# Altium footprint library LPEDT_project_library.PcbLib: 22 footprints (part 1 of 2)
Each footprint in its own frame and in the unit in brackets; x right, y up, seen from the top. Pads: shape width x height; smd on the part's side, far side on the other; paste and mask are expansions set on the pad; w line width, h text height; cw(c..) or ccw(c..) is an arc to the next point about the centre after c.
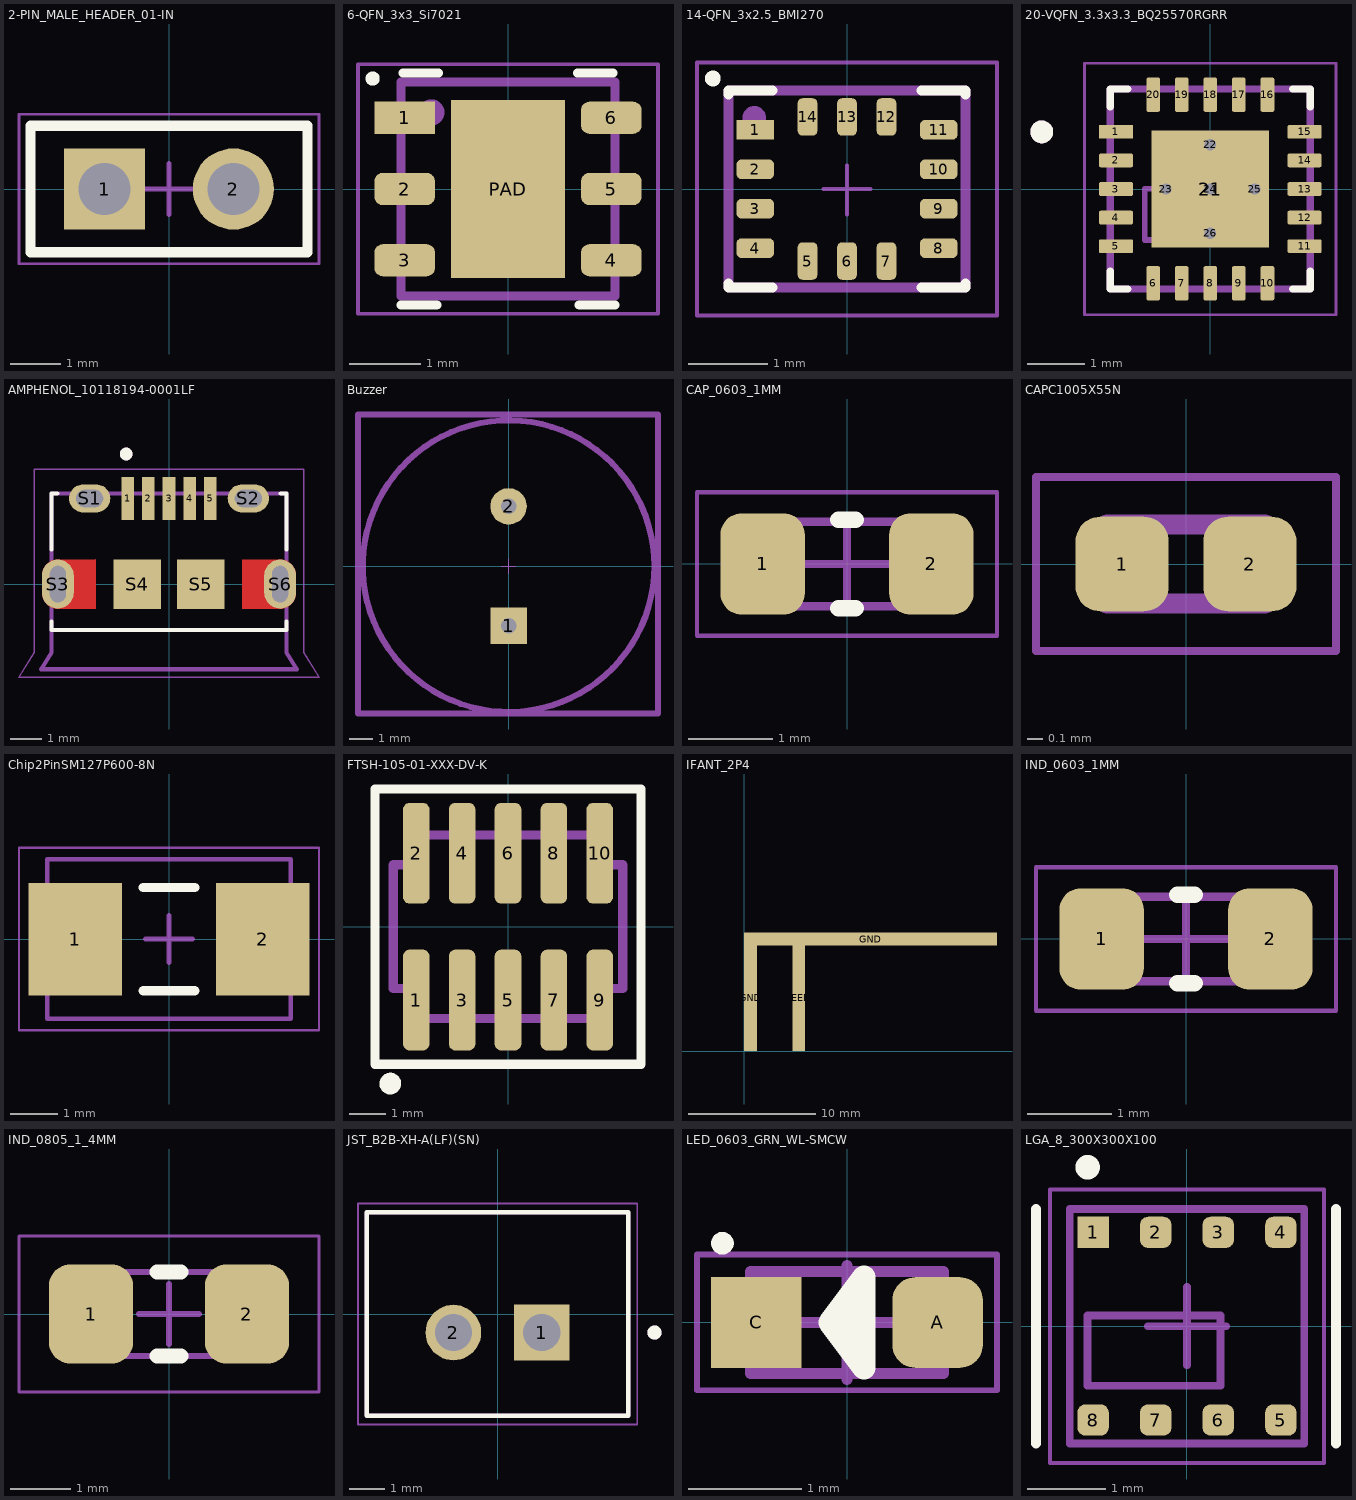
[diagram p0: the footprints below, top view; thin cyan lines are the x and y axes]

## 2-PIN_MALE_HEADER_01-IN [mm] "Terminal Assembly, 1x2 Pins, Vertical, 2.54mm Pitch, Male"
height 6.02
pads (2):
  rect 1.6x1.6 hole 1.02: 1(-1.27,0)
  round 1.6 hole 1.02: 2(1.27,0)
Top Overlay:
  lines w0.2: -2.73,-1.245 2.73,-1.245 2.73,1.245 -2.73,1.245 -2.73,-1.245
Mechanical 13:
  lines w0.1: -2.73,1.245 2.73,1.245 2.73,-1.245 -2.73,-1.245 -2.73,1.245
  text ".Designator" at -1.524,-0.635 h1.3
Mechanical 15:
  lines w0.05: -2.955,-1.47 2.955,-1.47 2.955,1.47 -2.955,1.47 -2.955,-1.47
  lines w0.1: -0.5,0 0.5,0 ; 0,-0.5 0,0.5
3D body "User Library-Header_Male_2Pin.STEP": height 8.54, standoff -3, extent -2.54,-1.22 2.54,1.27

## 6-QFN_3x3_Si7021 [mm] "QFN, 6-Leads, Body 3.00mmx2.50mm, Pitch 0.02, IPC Medium Density"
pads (7):
  rect 0.85x0.45 smd mask+0.06: 1(-1.45,1)
  rrect50% 0.85x0.45 smd mask+0.06: 2(-1.45,0) 3(-1.45,-1) 4(1.45,-1) 5(1.45,0) 6(1.45,1)
  rect 1.6x2.5 smd paste-2 mask+0.06: PAD(0,0)
Top Overlay:
  circle w0.1: c-1.9,1.55 r0.05
  lines w0.127: -1.5,-1.625 -1,-1.625 ; -1.475,1.625 -0.975,1.625 ; 0.975,1.625 1.475,1.625 ; 1,-1.625 1.5,-1.625
Top Paste:
  region: 0.8,0.127 -0.802,0.127 -0.802,1.249 0.8,1.249
  region: 0.801,-1.245 -0.801,-1.245 -0.801,-0.097 0.801,-0.097
Mechanical 13:
  circle w0.254: c-1.075,1.075 r0.056
  lines w0.127: -1.5,-1.5 1.5,-1.5 1.5,1.5 -1.5,1.5 -1.5,-1.5
  text ".Designator" at -1.13,-0.913 h0.65
Mechanical 15:
  lines w0.05: -0.325,0 0,0 ; 0,-0.3 0,0 ; 0,0.3 0,0 ; 0.3,0 0,0 ; -2.105,-1.75 2.105,-1.75 2.105,1.75 -2.105,1.75 -2.105,-1.75
3D body "SI7021-A20-IM.STEP": height 1.21, standoff 0, extent -1.5,-1.5 1.5,1.5

## 14-QFN_3x2.5_BMI270 [mm] "QFN, 14-Leads, Body 3.00mmx2.50mm, Pitch 0.13, IPC Medium Density"
height 0.87
pads (14):
  rect 0.475x0.25 smd mask+0.09: 1(-1.162,0.75)
  rrect50% 0.475x0.25 smd mask+0.09: 2(-1.162,0.25) 3(-1.162,-0.25) 4(-1.162,-0.75) 8(1.162,-0.75) 9(1.162,-0.25) 10(1.162,0.25) 11(1.162,0.75)
  rrect50% 0.25x0.475 smd mask+0.09: 5(-0.5,-0.913) 6(0,-0.913) 7(0.5,-0.913) 12(0.5,0.913) 13(0,0.913) 14(-0.5,0.913)
Top Overlay:
  circle w0.1: c-1.7,1.4 r0.05
  lines w0.127: -1.5,-1.195 -1.5,-1.25 -0.945,-1.25 ; -1.5,1.195 -1.5,1.25 -0.945,1.25 ; 0.945,-1.25 1.5,-1.25 1.5,-1.195 ; 0.945,1.25 1.5,1.25 1.5,1.195
Mechanical 13:
  circle w0.15: c-1.175,0.9 r0.075
  lines w0.127: -1.5,-1.25 -1.5,1.25 1.5,1.25 1.5,-1.25 -1.5,-1.25
  text ".Designator" at -0.88,-0.363 h0.65
Mechanical 15:
  lines w0.05: -0.3,0 0,0 ; 0,-0.325 0,0 ; 0,0.3 0,0 ; 0.3,0 0,0 ; -1.9,-1.6 1.9,-1.6 1.9,1.6 -1.9,1.6 -1.9,-1.6
3D body "step_temp.STEP": height 0.87, standoff 0, extent -1.5,-1.25 1.5,1.25

## 20-VQFN_3.3x3.3_BQ25570RGRR [mm] "VQFN, 20-Leads, Body 3.30mmx3.30mm, IPC Medium Density"
height 1
pads (26):
  rect 0.6x0.24 smd mask+0: 1(-1.65,1)
  rrect27% 0.6x0.24 smd mask+0: 2(-1.65,0.5) 3(-1.65,0) 4(-1.65,-0.5) 5(-1.65,-1) 11(1.65,-1) 12(1.65,-0.5) 13(1.65,0) 14(1.65,0.5) 15(1.65,1)
  rrect27% 0.24x0.6 smd mask+0: 6(-1,-1.65) 7(-0.5,-1.65) 8(0,-1.65) 9(0.5,-1.65) 10(1,-1.65) 16(1,1.65) 17(0.5,1.65) 18(0,1.65) 19(-0.5,1.65) 20(-1,1.65)
  rect 2.05x2.05 smd paste-2 mask+0.07: 21(0,0)
  round 0.3 hole 0.2 mask+0: 22(0,0.775) 23(-0.775,0) 24(0,0) 25(0.775,0) 26(0,-0.775)
Top Overlay:
  circle w0.2: c-2.95,1 r0.1
  lines w0.127: -1.75,-1.44 -1.75,-1.75 -1.44,-1.75 ; -1.75,1.44 -1.75,1.75 -1.44,1.75 ; 1.44,-1.75 1.75,-1.75 1.75,-1.44 ; 1.44,1.75 1.75,1.75 1.75,1.44
Top Paste:
  region: 1.02,-1.02 0.1,-1.02 0.1,-0.1 1.02,-0.1
  region: -0.1,-1.02 -1.02,-1.02 -1.02,-0.1 -0.1,-0.1
  region: 1.02,0.1 0.1,0.1 0.1,1.02 1.02,1.02
  region: -0.1,0.1 -1.02,0.1 -1.02,1.02 -0.1,1.02
Top Solder:
  drawing of 20 lines, arcs and shapes, not listed
Mechanical 13:
  circle w0.2: c-2.95,1 r0.1
  lines w0.1: -1.146,-0.894 -1.146,0.006 0.554,0.006 0.554,-0.894 -1.146,-0.894
  lines w0.127: -1.75,-1.75 -1.75,1.75 1.75,1.75 1.75,-1.75 -1.75,-1.75
  text ".Designator" at -0.962,-0.614 h0.4
Mechanical 15:
  lines w0.05: -0.3,0 0,0 ; 0,-0.325 0,0 ; 0,0.3 0,0 ; 0.3,0 0,0 ; -2.2,-2.2 2.2,-2.2 2.2,2.2 -2.2,2.2 -2.2,-2.2
3D body "step_temp.STEP": height 1, standoff 0, extent -1.75,-1.75 1.75,1.75

## AMPHENOL_10118194-0001LF [mm]
pads (11):
  rect 0.4x1.35 smd mask+0.051: 1(-1.3,2.7) 2(-0.65,2.7) 3(0,2.7) 4(0.65,2.7) 5(1.3,2.7)
  oval 1.3x0.889 hole 0.55 slot 0.85 at 0 deg mask+0.102: S1(-2.5,2.7) S2(2.5,2.7)
  oval 1.003x1.55 hole 0.5 slot 1.15 at 90 deg: S3(-3.5,0) S6(3.5,0)
  rect 1.5x1.55 smd: S4(-1,0) S5(1,0)
Top Layer:
  region: 192 vertices and 0 holes, not listed, extent -4,-0.775 -2.3,0.78
  region: 192 vertices and 0 holes, not listed, extent 2.3,-0.78 4,0.775
Top Overlay:
  circle w0.2: c-1.35,4.1 r0.1
  lines w0.127: -3.7,-1.18 -3.7,-1.45 3.7,-1.45 3.7,-1.18 ; -3.7,1.095 -3.7,2.85 -3.52,2.85 ; 3.52,2.85 3.7,2.85 3.7,1.095
Top Paste:
  drawing of 6 lines, arcs and shapes, not listed
Top Solder:
  region: -2.2,-0.875 -3.6,-0.875 -3.626,-0.874 -3.652,-0.872 -3.678,-0.869 -3.704,-0.864 -3.729,-0.858 -3.755,-0.851 -3.779,-0.842 -3.803,-0.832 -3.827,-0.821 -3.85,-0.808 -3.872,-0.794 -3.894,-0.78 -3.915,-0.764 -3.935,-0.747 -3.954,-0.729 -3.972,-0.71 -3.989,-0.69 -4.005,-0.669 -4.019,-0.647 -4.033,-0.625 -4.046,-0.602 -4.057,-0.578 -4.067,-0.554 -4.076,-0.53 -4.083,-0.504 -4.089,-0.479 -4.094,-0.453 -4.097,-0.427 -4.099,-0.401 -4.1,-0.375 -4.1,0.375 -4.099,0.401 -4.097,0.427 -4.094,0.453 -4.089,0.479 -4.083,0.504 -4.076,0.53 -4.067,0.554 -4.057,0.578 -4.046,0.602 -4.033,0.625 -4.019,0.647 -4.005,0.669 -3.989,0.69 -3.972,0.71 -3.954,0.729 -3.935,0.747 -3.915,0.764 -3.894,0.78 -3.872,0.794 -3.85,0.808 -3.827,0.821 -3.803,0.832 -3.779,0.842 -3.755,0.851 -3.729,0.858 -3.704,0.864 -3.678,0.869 -3.652,0.872 -3.626,0.874 -3.6,0.875 -2.2,0.875
  region: 3.626,0.874 3.652,0.872 3.678,0.869 3.704,0.864 3.729,0.858 3.755,0.851 3.779,0.842 3.803,0.832 3.827,0.821 3.85,0.808 3.872,0.794 3.894,0.78 3.915,0.764 3.935,0.747 3.954,0.729 3.972,0.71 3.989,0.69 4.005,0.669 4.019,0.647 4.033,0.625 4.046,0.602 4.057,0.578 4.067,0.554 4.076,0.53 4.083,0.504 4.089,0.479 4.094,0.453 4.097,0.427 4.099,0.401 4.1,0.375 4.1,-0.375 4.099,-0.401 4.097,-0.427 4.094,-0.453 4.089,-0.479 4.083,-0.504 4.076,-0.53 4.067,-0.554 4.057,-0.578 4.046,-0.602 4.033,-0.625 4.019,-0.647 4.005,-0.669 3.989,-0.69 3.972,-0.71 3.954,-0.729 3.935,-0.747 3.915,-0.764 3.894,-0.78 3.872,-0.794 3.85,-0.808 3.827,-0.821 3.803,-0.832 3.779,-0.842 3.755,-0.851 3.729,-0.858 3.704,-0.864 3.678,-0.869 3.652,-0.872 3.626,-0.874 3.6,-0.875 2.2,-0.875 2.2,0.875 3.6,0.875
Mechanical 13:
  circle w0.2: c-1.35,4.1 r0.1
  lines w0.127: -3.7,-1.45 3.7,-1.45 ; -3.7,-1.45 -3.7,2.85 3.7,2.85 3.7,-1.45 ; -3.7,-1.45 -3.7,-2.15 -4.025,-2.68 4.025,-2.68 3.7,-2.15 3.7,-1.45
  text "PCB END" at -1.95,-2.1 h0.5
  text ".Designator" at -3.187,1.219 h0.5
Mechanical 15:
  lines w0.05: -4.725,-2.93 4.725,-2.93 4.25,-2.15 4.25,3.625 -4.25,3.625 -4.25,-2.15 -4.725,-2.93
3D body "10118194-0001LF--3DModel-STEP-533217COLOR.STEP": height 2.69, standoff -0.58, extent -4.025,-2.667 4.025,2.913

## Buzzer [mm]
pads (2):
  rect 1.524x1.524 hole 0.65: 1(0,-2.5)
  round 1.524 hole 0.65: 2(0,2.5)
Mechanical 13:
  circle w0.254: c0,0 r6.1
  text ".Designator" at -2.705,-1.293 h0.56
Mechanical 15:
  lines w0.05: -0.3,0 0,0 ; 0,-0.325 0,0 ; 0,0.3 0,0 ; 0.3,0 0,0
  lines w0.254: -6.3,-6.175 6.25,-6.175 6.25,6.35 -6.3,6.35 -6.3,-6.175
3D body "PS1240P02BT.step": height 6, standoff -15, extent -6.104,-6.104 6.096,6.096

## CAP_0603_1MM [mm] "Chip Capacitor, 2-Leads, Body 1.60x0.80mm, IPC Medium Density"
height 1
pads (2):
  rrect50% 1x1.2 smd: 1(-1,0) 2(1,0)
Top Overlay:
  lines w0.2: -0.1,-0.525 0.1,-0.525 ; -0.1,0.525 0.1,0.525
Mechanical 13:
  lines w0.1: -0.9,-0.5 -0.9,0.5 0.9,0.5 0.9,-0.5 -0.9,-0.5
  text ".Designator" at -0.723,-0.254 h0.5
Mechanical 15:
  lines w0.05: -1.778,-0.85 -1.778,0.85 1.778,0.85 1.778,-0.85 -1.778,-0.85
  lines w0.1: -0.5,0 0.5,0 ; 0,-0.5 0,0.5
3D body "CAP_0603_1608X10.step": height 1, standoff 0, extent -0.9,-0.5 0.9,0.5

## CAPC1005X55N [mm]
height 0.55
pads (2):
  rrect53% 0.59x0.6 smd: 1(-0.405,0) 2(0.405,0)
Mechanical 13:
  lines w0.127: -0.5,-0.25 -0.5,0.25 0.5,0.25 0.5,-0.25 -0.5,-0.25
Mechanical 15:
  lines w0.05: -0.95,-0.55 -0.95,0.55 0.95,0.55 0.95,-0.55 -0.95,-0.55
3D body "step_temp.STEP": height 0.55, standoff 0, extent -0.5,-0.25 0.5,0.25

## Chip2PinSM127P600-8N [mm]
height 1.5
pads (2):
  rect 2x2.4 smd: 1(-2,0) 2(2,0)
Top Overlay:
  lines w0.2: -0.55,-1.1 0.55,-1.1 ; -0.55,1.1 0.55,1.1
Mechanical 13:
  lines w0.1: -2.6,-1.7 2.6,-1.7 2.6,1.7 -2.6,1.7 -2.6,-1.7
Mechanical 15:
  lines w0.05: -3.2,-1.95 3.2,-1.95 3.2,1.95 -3.2,1.95 -3.2,-1.95
  lines w0.1: -0.5,0 0.5,0 ; 0,-0.5 0,0.5
3D body: height 1.5, standoff 0, extent 1.3,-1.7 2.6,1.7
3D body: height 1.5, standoff 0, extent -2.6,-1.7 -1.3,1.7
3D body: height 1.5, standoff 0, extent -1.3,-1.7 1.3,1.7

## FTSH-105-01-XXX-DV-K [mil]
pads (10):
  rrect50% 29x110 smd mask+2: 1(-100,-80) 2(-100,80) 3(-50,-80) 4(-50,80) 5(0,-80) 6(0,80) 7(50,-80) 8(50,80) 9(100,-80) 10(100,80)
Top Overlay:
  lines w10: -145,-150 145,-150 145,150 -145,150 -145,-150
  lines w11.81: -122.39,-171.52 cw(c-128.27,-171.01) -122.37,-171.01
Mechanical 1:
  lines w10: -125,-67.5 -100,-67.5 -100,-100 100,-100 100,-67.5 125,-67.5 125,67.5 100,67.5 100,100 -100,100 -100,67.5 -125,67.5 -125,-67.5
  text ".Designator" at -97.68,-8.48 h19.68
3D body "FTSH-105-01-LM-DV-K.stp": height 240.75, standoff -0.25, extent -124.99,-114.99 125,115

## IFANT_2P4 [mil]
pads (3):
  rect 40x331 smd mask+4: FEED(169,165.5) GND(20,165.5)
  rect 782x39 smd mask+4: GND(391,346.5)

## IND_0603_1MM [mm] "Fixed Inductor, 2-Leads, Body 1.60x0.80mm, IPC Medium Density"
height 1
pads (2):
  rrect50% 1x1.2 smd: 1(-1,0) 2(1,0)
Top Overlay:
  lines w0.2: -0.1,-0.525 0.1,-0.525 ; -0.1,0.525 0.1,0.525
Mechanical 13:
  lines w0.1: -0.9,-0.5 0.9,-0.5 0.9,0.5 -0.9,0.5 -0.9,-0.5
  text ".Designator" at -0.723,-0.254 h0.5
Mechanical 15:
  lines w0.05: -1.778,-0.85 1.778,-0.85 1.778,0.85 -1.778,0.85 -1.778,-0.85
  lines w0.1: -0.5,0 0.5,0 ; 0,-0.5 0,0.5
3D body "CAP_0603_1608X10.step": height 1, standoff 0, extent -0.9,-0.5 0.9,0.5

## IND_0805_1_4MM [mm] "Fixed Inductor, 2-Leads, Body 2.00x1.25mm, IPC Medium Density"
height 1.4
pads (2):
  rrect50% 1.4x1.65 smd: 1(-1.3,0) 2(1.3,0)
Top Overlay:
  lines w0.254: -0.2,-0.7 0.2,-0.7 ; -0.2,0.7 0.2,0.7
Mechanical 13:
  lines w0.1: -1.075,-0.7 -1.075,0.7 1.075,0.7 1.075,-0.7 -1.075,-0.7
  text ".Designator" at -0.82,-0.52 h0.9
Mechanical 15:
  lines w0.05: -2.5,-1.3 -2.5,1.3 2.5,1.3 2.5,-1.3 -2.5,-1.3
  lines w0.1: -0.5,0 0.5,0 ; 0,-0.5 0,0.5
3D body "CAP_0805_1_4MM.step": height 1.4, standoff 0, extent -1.075,-0.7 1.075,0.7

## JST_B2B-XH-A(LF)(SN) [mm]
height 7
pads (2):
  rect 1.575x1.575 / inner round 1.575 / far side rect 1.575x1.575 hole 1.05: 1(1.25,-0.525)
  round 1.575 hole 1.05: 2(-1.25,-0.525)
Top Overlay:
  circle w0.2: c4.44,-0.525 r0.1
  lines w0.127: -3.7,-2.875 3.7,-2.875 3.7,2.875 -3.7,2.875 -3.7,-2.875
Mechanical 13:
  circle w0.2: c4.44,-0.525 r0.1
  lines w0.127: -3.7,-2.875 3.7,-2.875 3.7,2.875 -3.7,2.875 -3.7,-2.875
  text ".Designator" at -2.32,1.18 h0.9
Mechanical 15:
  lines w0.05: -3.95,-3.125 -3.95,3.125 3.95,3.125 3.95,-3.125 -3.95,-3.125
3D body "step_temp.STEP": height 7, standoff -3.4, extent -3.7,-2.875 3.7,2.875

## LED_0603_GRN_WL-SMCW [mm] "SODFL, 2-Leads, Body 0.80x1.80mm, IPC Medium Density"
height 0.8
pads (2):
  rrect50% 0.8x0.8 smd: A(0.8,0)
  rect 0.8x0.8 smd: C(-0.8,0)
Top Overlay:
  circle w0.1: c-1.1,0.7 r0.05
  lines w0.2: -0.15,0 0.05,0
  lines w0.205: -0.15,0 0.15,0.4 0.15,-0.4 -0.15,0
Mechanical 13:
  lines w0.1: -0.85,-0.45 0.85,-0.45 0.85,0.45 -0.85,0.45 -0.85,-0.45
  text ".Designator" at -0.723,-0.254 h0.5
Mechanical 15:
  lines w0.05: -1.325,-0.6 1.325,-0.6 1.325,0.6 -1.325,0.6 -1.325,-0.6
  lines w0.1: -0.5,0 0.5,0 ; 0,-0.5 0,0.5
3D body "LED_0603_WURTH_WL-SMCW_base.step": height 0.65, standoff 0.01, extent -0.8,-0.4 0.8,0.4
3D body "LED_0603_WURTH_WL-SMCW_lens.step": height 0.71, standoff 0.31, extent -0.55,-0.4 0.55,0.4

## LGA_8_300X300X100 [mm] "LGA, 8-Leads, Body 3.00x3.00mmx1.00mm, Pitch 0.80mm"
height 1
pads (8):
  rect 0.4x0.4 smd: 1(-1.2,1.2)
  rrect50% 0.4x0.4 smd: 2(-0.4,1.2) 3(0.4,1.2) 4(1.2,1.2) 5(1.2,-1.2) 7(-0.4,-1.2) 8(-1.2,-1.2)
  rrect50% 0.4x0.4 smd mask+0.102: 6(0.4,-1.2)
Top Overlay:
  circle w0.25: c-1.27,2.032 r0.03
  lines w0.127: -1.93,-1.501 -1.93,1.499 ; 1.905,-1.501 1.905,1.499
Mechanical 13:
  lines w0.1: -1.5,-1.5 -1.5,1.5 1.5,1.5 1.5,-1.5 -1.5,-1.5 ; -1.27,-0.762 -1.27,0.138 0.43,0.138 0.43,-0.762 -1.27,-0.762
  text ".Designator" at -1.066,-0.432 h0.4
Mechanical 15:
  lines w0.05: -1.75,-1.75 -1.75,1.75 1.75,1.75 1.75,-1.75 -1.75,-1.75
  lines w0.1: -0.5,0 0.5,0 ; 0,-0.5 0,0.5
3D body "BME688--3DModel-STEP-56544.STEP": height 1, standoff 0, extent -1.498,-1.518 1.502,1.482